# EAGLE library part COVEN-V1 (library kmod-connectors)
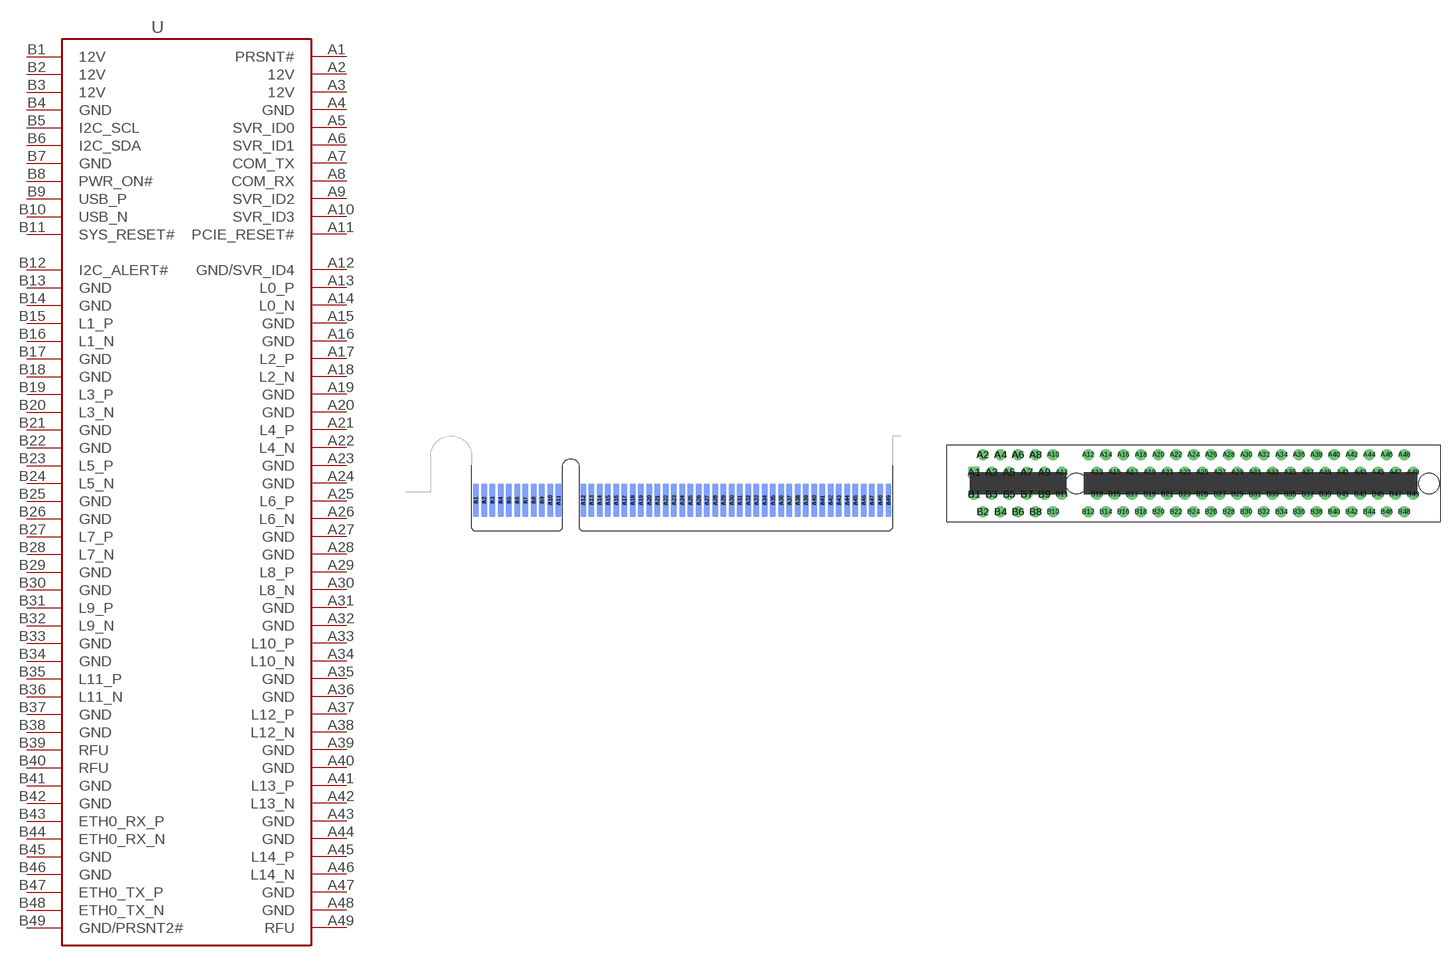
[diagram p8: symbol with the pads of PCIE-X8-EDGE; footprints PCIE-X8-EDGE, PCIE-X8-CONN]

Designator prefix -

## COVEN-V1EDGE_NOSILK  [PCIE-X8-EDGE]
A1  PRSNT#
A2  12V  in
A3  12V  in
A4  GND  in
A5  SVR_ID0
A6  SVR_ID1
A7  COM_TX
A8  COM_RX
A9  SVR_ID2
A10  SVR_ID3
A11  PCIE_RESET#
A12  GND/SVR_ID4
A13  L0_P
A14  L0_N
A15  GND  in
A16  GND  in
A17  L2_P
A18  L2_N
A19  GND  in
A20  GND  in
A21  L4_P
A22  L4_N
A23  GND  in
A24  GND  in
A25  L6_P
A26  L6_N
A27  GND  in
A28  GND  in
A29  L8_P
A30  L8_N
A31  GND  in
A32  GND  in
A33  L10_P
A34  L10_N
A35  GND  in
A36  GND  in
A37  L12_P
A38  L12_N
A39  GND  in
A40  GND  in
A41  L13_P
A42  L13_N
A43  GND  in
A44  GND  in
A45  L14_P
A46  L14_N
A47  GND  in
A48  GND  in
A49  RFU  nc
B1  12V  in
B2  12V  in
B3  12V  in
B4  GND  in
B5  I2C_SCL
B6  I2C_SDA
B7  GND  in
B8  PWR_ON#
B9  USB_P
B10  USB_N
B11  SYS_RESET#
B12  I2C_ALERT#
B13  GND  in
B14  GND  in
B15  L1_P
B16  L1_N
B17  GND  in
B18  GND  in
B19  L3_P
B20  L3_N
B21  GND  in
B22  GND  in
B23  L5_P
B24  L5_N
B25  GND  in
B26  GND  in
B27  L7_P
B28  L7_N
B29  GND  in
B30  GND  in
B31  L9_P
B32  L9_N
B33  GND  in
B34  GND  in
B35  L11_P
B36  L11_N
B37  GND  in
B38  GND  in
B39  RFU  nc
B40  RFU  nc
B41  GND  in
B42  GND  in
B43  ETH0_RX_P
B44  ETH0_RX_N
B45  GND  in
B46  GND  in
B47  ETH0_TX_P
B48  ETH0_TX_N
B49  GND/PRSNT2#  in

## COVEN-V1CONN_NOSILK  [PCIE-X8-CONN]
Pads as for PCIE-X8-EDGE

## COVEN-V1EDGE  [CVN-V1-EDGE]
Pads as for PCIE-X8-EDGE

## COVEN-V1CONN  [CVN-V1-CONN]
Pads as for PCIE-X8-EDGE

## Footprint PCIE-X8-EDGE (pad centres in mm)
smd 0.7 x 4 bottom: A1 -11.5,-0.75; A2 -10.5,-0.75; A3 -9.5,-0.75; A4 -8.5,-0.75; A5 -7.5,-0.75; A6 -6.5,-0.75; A7 -5.5,-0.75; A8 -4.5,-0.75; A9 -3.5,-0.75; A10 -2.5,-0.75; A11 -1.5,-0.75; A12 1.5,-0.75; A13 2.5,-0.75; A14 3.5,-0.75; A15 4.5,-0.75; A16 5.5,-0.75; A17 6.5,-0.75; A18 7.5,-0.75; A19 8.5,-0.75; A20 9.5,-0.75; A21 10.5,-0.75; A22 11.5,-0.75; A23 12.5,-0.75; A24 13.5,-0.75; A25 14.5,-0.75; A26 15.5,-0.75; A27 16.5,-0.75; A28 17.5,-0.75; A29 18.5,-0.75; A30 19.5,-0.75; A31 20.5,-0.75; A32 21.5,-0.75; A33 22.5,-0.75; A34 23.5,-0.75; A35 24.5,-0.75; A36 25.5,-0.75; A37 26.5,-0.75; A38 27.5,-0.75; A39 28.5,-0.75; A40 29.5,-0.75; A41 30.5,-0.75; A42 31.5,-0.75; A43 32.5,-0.75; A44 33.5,-0.75; A45 34.5,-0.75; A46 35.5,-0.75; A47 36.5,-0.75; A48 37.5,-0.75; A49 38.5,-0.75
smd 0.7 x 4: B1 -11.5,-0.75; B2 -10.5,-0.75; B3 -9.5,-0.75; B4 -8.5,-0.75; B5 -7.5,-0.75; B6 -6.5,-0.75; B7 -5.5,-0.75; B8 -4.5,-0.75; B9 -3.5,-0.75; B10 -2.5,-0.75; B11 -1.5,-0.75; B12 1.5,-0.75; B13 2.5,-0.75; B14 3.5,-0.75; B15 4.5,-0.75; B16 5.5,-0.75; B17 6.5,-0.75; B18 7.5,-0.75; B19 8.5,-0.75; B20 9.5,-0.75; B21 10.5,-0.75; B22 11.5,-0.75; B23 12.5,-0.75; B24 13.5,-0.75; B25 14.5,-0.75; B26 15.5,-0.75; B27 16.5,-0.75; B28 17.5,-0.75; B29 18.5,-0.75; B30 19.5,-0.75; B31 20.5,-0.75; B32 21.5,-0.75; B33 22.5,-0.75; B34 23.5,-0.75; B35 24.5,-0.75; B36 25.5,-0.75; B37 26.5,-0.75; B38 27.5,-0.75; B39 28.5,-0.75; B40 29.5,-0.75; B41 30.5,-0.75; B42 31.5,-0.75; B43 32.5,-0.75; B44 33.5,-0.75; B45 34.5,-0.75; B46 35.5,-0.75; B47 36.5,-0.75; B48 37.5,-0.75; B49 38.5,-0.75

## Footprint PCIE-X8-CONN (pad centres in mm)
drill 0.7 pad 1.27 square: A1 -11.5,1.25
drill 0.7 pad 1.27: A2 -10.5,3.25; A3 -9.5,1.25; A4 -8.5,3.25; A5 -7.5,1.25; A6 -6.5,3.25; A7 -5.5,1.25; A8 -4.5,3.25; A9 -3.5,1.25; A10 -2.5,3.25; A11 -1.5,1.25; A12 1.5,3.25; A13 2.5,1.25; A14 3.5,3.25; A15 4.5,1.25; A16 5.5,3.25; A17 6.5,1.25; A18 7.5,3.25; A19 8.5,1.25; A20 9.5,3.25; A21 10.5,1.25; A22 11.5,3.25; A23 12.5,1.25; A24 13.5,3.25; A25 14.5,1.25; A26 15.5,3.25; A27 16.5,1.25; A28 17.5,3.25; A29 18.5,1.25; A30 19.5,3.25; A31 20.5,1.25; A32 21.5,3.25; A33 22.5,1.25; A34 23.5,3.25; A35 24.5,1.25; A36 25.5,3.25; A37 26.5,1.25; A38 27.5,3.25; A39 28.5,1.25; A40 29.5,3.25; A41 30.5,1.25; A42 31.5,3.25; A43 32.5,1.25; A44 33.5,3.25; A45 34.5,1.25; A46 35.5,3.25; A47 36.5,1.25; A48 37.5,3.25; A49 38.5,1.25; B1 -11.5,-1.25; B2 -10.5,-3.25; B3 -9.5,-1.25; B4 -8.5,-3.25; B5 -7.5,-1.25; B6 -6.5,-3.25; B7 -5.5,-1.25; B8 -4.5,-3.25; B9 -3.5,-1.25; B10 -2.5,-3.25; B11 -1.5,-1.25; B12 1.5,-3.25; B13 2.5,-1.25; B14 3.5,-3.25; B15 4.5,-1.25; B16 5.5,-3.25; B17 6.5,-1.25; B18 7.5,-3.25; B19 8.5,-1.25; B20 9.5,-3.25; B21 10.5,-1.25; B22 11.5,-3.25; B23 12.5,-1.25; B24 13.5,-3.25; B25 14.5,-1.25; B26 15.5,-3.25; B27 16.5,-1.25; B28 17.5,-3.25; B29 18.5,-1.25; B30 19.5,-3.25; B31 20.5,-1.25; B32 21.5,-3.25; B33 22.5,-1.25; B34 23.5,-3.25; B35 24.5,-1.25; B36 25.5,-3.25; B37 26.5,-1.25; B38 27.5,-3.25; B39 28.5,-1.25; B40 29.5,-3.25; B41 30.5,-1.25; B42 31.5,-3.25; B43 32.5,-1.25; B44 33.5,-3.25; B45 34.5,-1.25; B46 35.5,-3.25; B47 36.5,-1.25; B48 37.5,-3.25; B49 38.5,-1.25
hole 2.35 at 0.15,0
hole 2.35 at 40.3,0

## Footprint CVN-V1-EDGE (pad centres in mm)
smd 0.7 x 3 bottom: A1 -11.5,-0.25
smd 0.7 x 4 bottom: A2 -10.5,-0.75; A3 -9.5,-0.75; A4 -8.5,-0.75; A5 -7.5,-0.75; A6 -6.5,-0.75; A7 -5.5,-0.75; A8 -4.5,-0.75; A9 -3.5,-0.75; A10 -2.5,-0.75; A11 -1.5,-0.75; A12 1.5,-0.75; A13 2.5,-0.75; A14 3.5,-0.75; A15 4.5,-0.75; A16 5.5,-0.75; A17 6.5,-0.75; A18 7.5,-0.75; A19 8.5,-0.75; A20 9.5,-0.75; A21 10.5,-0.75; A22 11.5,-0.75; A23 12.5,-0.75; A24 13.5,-0.75; A25 14.5,-0.75; A26 15.5,-0.75; A27 16.5,-0.75; A28 17.5,-0.75; A29 18.5,-0.75; A30 19.5,-0.75; A31 20.5,-0.75; A32 21.5,-0.75; A33 22.5,-0.75; A34 23.5,-0.75; A35 24.5,-0.75; A36 25.5,-0.75; A37 26.5,-0.75; A38 27.5,-0.75; A39 28.5,-0.75; A40 29.5,-0.75; A41 30.5,-0.75; A42 31.5,-0.75; A43 32.5,-0.75; A44 33.5,-0.75; A45 34.5,-0.75; A46 35.5,-0.75; A47 36.5,-0.75; A48 37.5,-0.75; A49 38.5,-0.75
smd 0.7 x 4: B1 -11.5,-0.75; B2 -10.5,-0.75; B3 -9.5,-0.75; B4 -8.5,-0.75; B5 -7.5,-0.75; B6 -6.5,-0.75; B7 -5.5,-0.75; B8 -4.5,-0.75; B9 -3.5,-0.75; B10 -2.5,-0.75; B11 -1.5,-0.75; B12 1.5,-0.75; B13 2.5,-0.75; B14 3.5,-0.75; B15 4.5,-0.75; B16 5.5,-0.75; B17 6.5,-0.75; B18 7.5,-0.75; B19 8.5,-0.75; B20 9.5,-0.75; B21 10.5,-0.75; B22 11.5,-0.75; B23 12.5,-0.75; B24 13.5,-0.75; B25 14.5,-0.75; B26 15.5,-0.75; B27 16.5,-0.75; B28 17.5,-0.75; B29 18.5,-0.75; B30 19.5,-0.75; B31 20.5,-0.75; B32 21.5,-0.75; B33 22.5,-0.75; B34 23.5,-0.75; B35 24.5,-0.75; B36 25.5,-0.75; B37 26.5,-0.75; B38 27.5,-0.75; B39 28.5,-0.75; B40 29.5,-0.75; B41 30.5,-0.75; B42 31.5,-0.75; B43 32.5,-0.75; B44 33.5,-0.75; B45 34.5,-0.75; B46 35.5,-0.75; B47 36.5,-0.75; B48 37.5,-0.75
smd 0.7 x 3: B49 38.5,-0.25

## Footprint CVN-V1-CONN (pad centres in mm)
drill 0.7 pad 1.27 square: A1 -11.5,1.25
drill 0.7 pad 1.27: A2 -10.5,3.25; A3 -9.5,1.25; A4 -8.5,3.25; A5 -7.5,1.25; A6 -6.5,3.25; A7 -5.5,1.25; A8 -4.5,3.25; A9 -3.5,1.25; A10 -2.5,3.25; A11 -1.5,1.25; A12 1.5,3.25; A13 2.5,1.25; A14 3.5,3.25; A15 4.5,1.25; A16 5.5,3.25; A17 6.5,1.25; A18 7.5,3.25; A19 8.5,1.25; A20 9.5,3.25; A21 10.5,1.25; A22 11.5,3.25; A23 12.5,1.25; A24 13.5,3.25; A25 14.5,1.25; A26 15.5,3.25; A27 16.5,1.25; A28 17.5,3.25; A29 18.5,1.25; A30 19.5,3.25; A31 20.5,1.25; A32 21.5,3.25; A33 22.5,1.25; A34 23.5,3.25; A35 24.5,1.25; A36 25.5,3.25; A37 26.5,1.25; A38 27.5,3.25; A39 28.5,1.25; A40 29.5,3.25; A41 30.5,1.25; A42 31.5,3.25; A43 32.5,1.25; A44 33.5,3.25; A45 34.5,1.25; A46 35.5,3.25; A47 36.5,1.25; A48 37.5,3.25; A49 38.5,1.25; B1 -11.5,-1.25; B2 -10.5,-3.25; B3 -9.5,-1.25; B4 -8.5,-3.25; B5 -7.5,-1.25; B6 -6.5,-3.25; B7 -5.5,-1.25; B8 -4.5,-3.25; B9 -3.5,-1.25; B10 -2.5,-3.25; B11 -1.5,-1.25; B12 1.5,-3.25; B13 2.5,-1.25; B14 3.5,-3.25; B15 4.5,-1.25; B16 5.5,-3.25; B17 6.5,-1.25; B18 7.5,-3.25; B19 8.5,-1.25; B20 9.5,-3.25; B21 10.5,-1.25; B22 11.5,-3.25; B23 12.5,-1.25; B24 13.5,-3.25; B25 14.5,-1.25; B26 15.5,-3.25; B27 16.5,-1.25; B28 17.5,-3.25; B29 18.5,-1.25; B30 19.5,-3.25; B31 20.5,-1.25; B32 21.5,-3.25; B33 22.5,-1.25; B34 23.5,-3.25; B35 24.5,-1.25; B36 25.5,-3.25; B37 26.5,-1.25; B38 27.5,-3.25; B39 28.5,-1.25; B40 29.5,-3.25; B41 30.5,-1.25; B42 31.5,-3.25; B43 32.5,-1.25; B44 33.5,-3.25; B45 34.5,-1.25; B46 35.5,-3.25; B47 36.5,-1.25; B48 37.5,-3.25; B49 38.5,-1.25
hole 2.35 at 0.15,0
hole 2.35 at 40.3,0